# EAGLE library part R/2R-4G (library resistor-sil)
R/2R Ladder 4 Murata RGSD8L
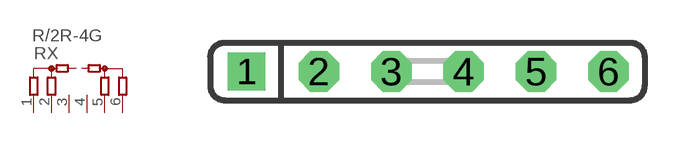
[diagram p46: symbol with the pads of SIL6; footprint SIL6]

Designator prefix RX

## R/2R-4G  [SIL6]
1  IN  pas
2  B4  pas
3  B3  pas
4  B2  pas
5  B1  pas
6  OUT  pas

## Footprint SIL6 (pad centres in mm)
Single In Line
drill 0.813 square: 1 -6.35,0
drill 0.813 pad 1.422 octagon: 2 -3.81,0; 3 -1.27,0; 4 1.27,0; 5 3.81,0; 6 6.35,0